# Altium schematic symbol library SW_BOURNS_PEC12R.SchLib: 1 symbol
Pins are listed as number, name and electrical type; pins without a type are passive.

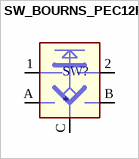
[diagram p0: symbol SW_BOURNS_PEC12R]

## SW_BOURNS_PEC12R
designator SW?
pins: 1, 2, A, B, C